# Altium integrated library Miscellaneous$.IntLib: 22 symbols
Pins are listed as number, name and electrical type; pins without a type are passive.

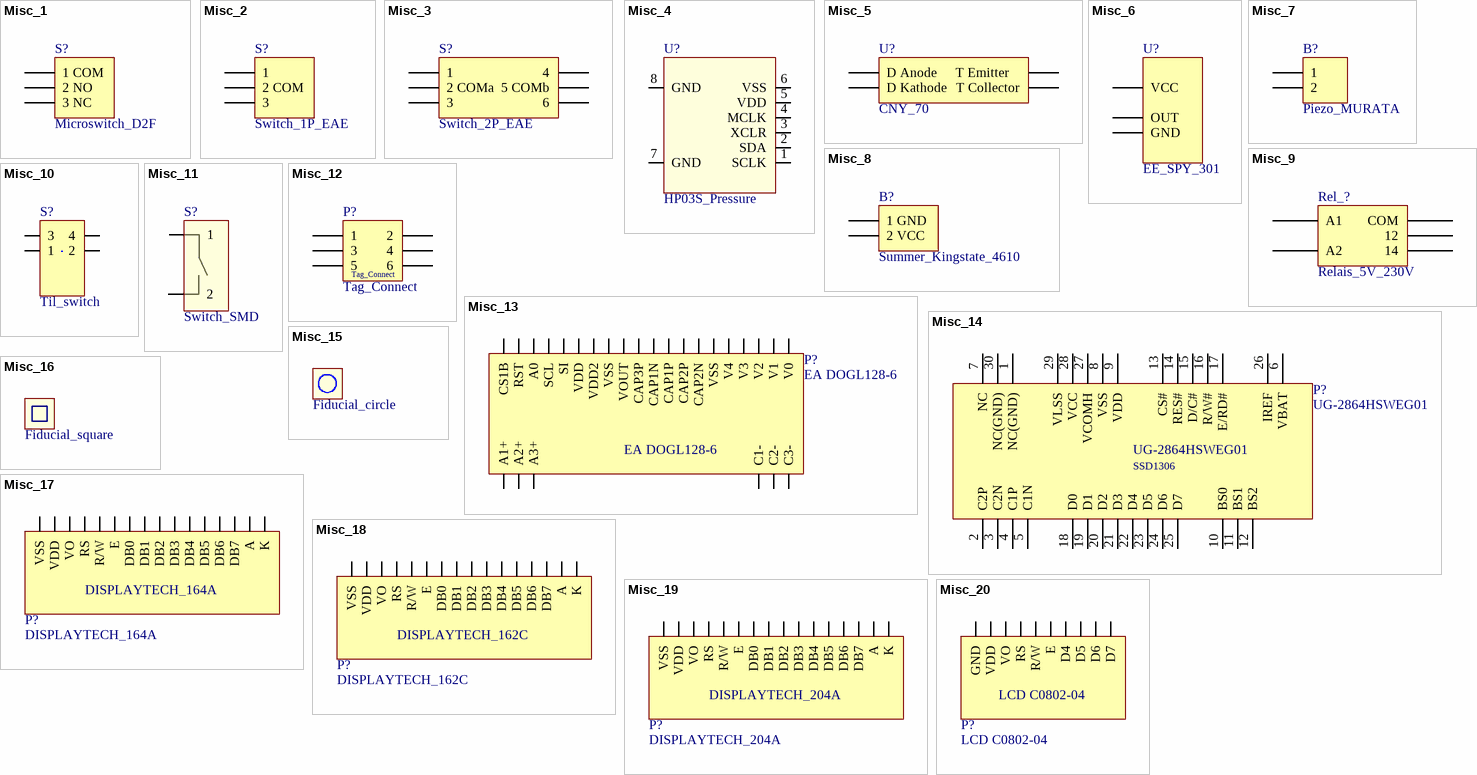
[diagram p0: symbols Misc_1 to Misc_20]

## Misc_1
designator S?, comment Microswitch_D2F
QR: 0; UID: Misc_1; Name: Microswitch_D2F; ComponentLink1URL: #NAME?; mounting: THT
footprint MICROSWITCH_D2F
pins: 1 1 COM, 2 2 NO, 3 3 NC

## Misc_2
designator S?, comment Switch_1P_EAE
RS_number: 448-0810; QR: 0; UID: Misc_2; Name: Switch_1P_EAE; Name_Hyperlink: Kippschalter 1-polig E-A-T vertikal; ComponentLink1URL: #NAME?; mounting: THT
footprint SWITCH_1P_EAE
pins: 1, 2 2 COM, 3

## Misc_3
designator S?, comment Switch_2P_EAE
RS_number: 249-2984; QR: 0; UID: Misc_3; Name: Switch_2P_EAE; Name_Hyperlink: Kippschalter 2-polig E-A-E 2A 250VAC; ComponentLink1URL: #NAME?; mounting: THT
footprint SWITCH_2P_EAE
pins: 1, 2 2 COMa, 3, 4, 5 5 COMb, 6

## Misc_4
designator U?, comment HP03S_Pressure
QR: 0; UID: Misc_4; Name: HP03S_Pressure; ComponentLink1URL: #NAME?; mounting: SMD
footprint Drucksensor_HP03S
footprint HP03S_PRESSURE
pins: 1 SCLK, 2 SDA, 3 XCLR, 4 MCLK, 5 VDD, 6 VSS, 7 GND, 8 GND

## Misc_5
designator U?, comment CNY_70
RS_number: 708-5348; QR: 0; UID: Misc_5; Name: CNY_70; Name_Hyperlink: CNY_70; ComponentLink1URL: #NAME?; mounting: THT
footprint CNY_70
pins: 1 D Anode, 2 D Kathode, 3 T Emitter   , 4 T Collector

## Misc_6
designator U?, comment EE_SPY_301
QR: 0; UID: Misc_6; Name: EE_SPY_301; ComponentLink1URL: #NAME?; mounting: THT
footprint EE_SPY_301
pins: 1 VCC, 2 OUT, 3 GND

## Misc_7
designator B?, comment Piezo_MURATA
3d_ref: 0; RS_number: 721-4931; UID: Misc_7; Name: Piezo_MURATA; Name_Hyperlink: Piezoelektrischer Wandler 3Vac 72dB; ComponentLink1URL: #NAME?; QR: 0; mounting: THT
footprint PIEZO_MURATA
pins: 1, 2

## Misc_8
designator B?, comment Summer_Kingstate_4610
3d_ref: 0; RS_number: 622-1326; UID: Misc_8; Name: Summer_Kingstate_4610; Name_Hyperlink: Piezo,Summer,25V,75dB; ComponentLink1URL: #NAME?; QR: 0; mounting: SMD
footprint SUMMER_KINGSTATE_4610
pins: 1 1 GND, 2 2 VCC

## Misc_9
designator Rel_?, comment Relais_5V_230V
RS_number: 511-2142; QR: 0; UID: Misc_9; Name: Relais_5V_230V; Name_Hyperlink: https://at.rs-online.com/web/p/monostabile-relais/5112142/?searchTerm=511-2142&relevancy-data=636F3D3126696E3D4931384E525353746F636B4E756D6265724D504E266C753D656E266D6D3D6D61746368616C6C26706D3D5E5C647B337D5B5C732D2F255C2E2C5D5C647B332C347D2426706F3D31342; ComponentLink1URL: #NAME?; mounting: THT
footprint RELAIS_5V_230V
pins: 11 COM, 12, 14, A1, A2

## Misc_10
designator S?, comment Til_switch
3d_ref: 0; RS_number: 361-5093; UID: Misc_10; Name: Til_switch; Name_Hyperlink: Til_switch; ComponentLink1URL: #NAME?; QR: 0; mounting: THT
footprint TIL_SWITCH
pins: 1, 2, 3, 4

## Misc_11
designator S?, comment Switch_SMD
QR: 0; UID: Misc_11; Name: Switch_SMD; ComponentLink1URL: #NAME?; mounting: SMD
footprint SWITCH_SMD
pins: 1, 2

## Misc_12
designator P?, comment Tag_Connect
QR: 0; UID: Misc_12; Name: Tag_Connect; ComponentLink1URL: #NAME?; mounting: SMD
footprint Tag_Connect
pins: 1, 2, 3, 4, 5, 6

## Misc_13
designator P?, comment EA DOGL128-6
RS_number: 758-8706; QR: 0; UID: Misc_13; Name: EA DOGL128-6; Name_Hyperlink: EA DOGL128-6; ComponentLink1URL: #NAME?; mounting: THT
footprint EA_DOGL128B_6
pins: 1 A1+, 2 A2+, 3 A3+, 18 C1-, 19 C2-, 20 C3-, 21 V0, 22 V1, 23 V2, 24 V3, 25 V4, 26 VSS, 27 CAP2N, 28 CAP2P, 29 CAP1P, 30 CAP1N, 31 CAP3P, 32 VOUT, 33 VSS, 34 VDD2, 35 VDD, 36 SI, 37 SCL, 38 A0, 39 RST, 40 CS1B

## Misc_14
designator P?, comment UG-2864HSWEG01
QR: 0; UID: Misc_14; Name: UG-2864HSWEG01; ComponentLink1URL: #NAME?; mounting: SMD
footprint UG-2864HSWEG01
pins: 1 NC(GND), 2 C2P, 3 C2N, 4 C1P, 5 C1N, 6 VBAT, 7 NC, 8 VSS, 9 VDD, 10 BS0, 11 BS1, 12 BS2, 13 CS#, 14 RES#, 15 D/C#, 16 R/W#, 17 E/RD#, 18 D0, 19 D1, 20 D2, 21 D3, 22 D4, 23 D5, 24 D6, 25 D7, 26 IREF, 27 VCOMH, 28 VCC, 29 VLSS, 30 NC(GND)
text: SSD1306

## Misc_15
designator W?, comment Fiducial_circle
QR: 0; UID: Misc_15; Name: Fiducial_circle; ComponentLink1URL: #NAME?; mounting: SMD
footprint Fiducial_circle

## Misc_16
designator W?, comment Fiducial_square
QR: 0; UID: Misc_16; Name: Fiducial_square; ComponentLink1URL: #NAME?; mounting: SMD
footprint Fiducial_square

## Misc_17
designator P?, comment DISPLAYTECH_164A
RS_number: 532-6795; QR: 0; UID: Misc_17; Name: DISPLAYTECH_164A; Name_Hyperlink: http://at.rs-online.com/web/p/lcd-displays-monochrom/5326795/?searchTerm=displaytech+164a&relevancy-data=636F3D3126696E3D4931384E4272616E644D504E266C753D6465266D6D3D6D61746368616C6C26706D3D5E5B5C772D5C2E2F252C5C735D2B2426706F3D3526736E3D592673743D4B455957; ComponentLink1URL: #NAME?; mounting: THT
footprint DISPLAYTECH_164A
pins: 1 VSS, 2 VDD, 3 VO, 4 RS, 5 R/W, 6 E, 7 DB0, 8 DB1, 9 DB2, 10 DB3, 11 DB4, 12 DB5, 13 DB6, 14 DB7, 15 A, 16 K

## Misc_18
designator P?, comment DISPLAYTECH_162C
RS_number: 532-6458; QR: 0; UID: Misc_18; Name: DISPLAYTECH_162C; Name_Hyperlink: http://at.rs-online.com/web/p/products/5326458/; ComponentLink1URL: #NAME?; mounting: THT
footprint DISPLAYTECH_162C
pins: 1 VSS, 2 VDD, 3 VO, 4 RS, 5 R/W, 6 E, 7 DB0, 8 DB1, 9 DB2, 10 DB3, 11 DB4, 12 DB5, 13 DB6, 14 DB7, 15 A, 16 K

## Misc_19
designator P?, comment DISPLAYTECH_204A
RS_number: 532-6458; QR: 0; UID: Misc_19; Name: DISPLAYTECH_204A; Name_Hyperlink: http://at.rs-online.com/web/p/products/5326458/; ComponentLink1URL: #NAME?; mounting: THT
footprint DISPLAYTECH_204A
pins: 1 VSS, 2 VDD, 3 VO, 4 RS, 5 R/W, 6 E, 7 DB0, 8 DB1, 9 DB2, 10 DB3, 11 DB4, 12 DB5, 13 DB6, 14 DB7, 15 A, 16 K

## Misc_20
designator P?, comment LCD C0802-04
RS_number: 120 622; QR: 0; UID: Misc_20; Name: LCD C0802-04; Name_Hyperlink: http://www.pollin.de/shop/dt/NzczOTc4OTk-/Bauelemente_Bauteile/Aktive_Bauelemente/Displays/LCD_Modul_C0802_04.html; ComponentLink1URL: #NAME?; mounting: SMD
footprint LCD C0802-04
pins: 1 GND, 2 VDD, 3 VO, 4 RS, 5 R/W, 6 E, 7 D4, 8 D5, 9 D6, 10 D7

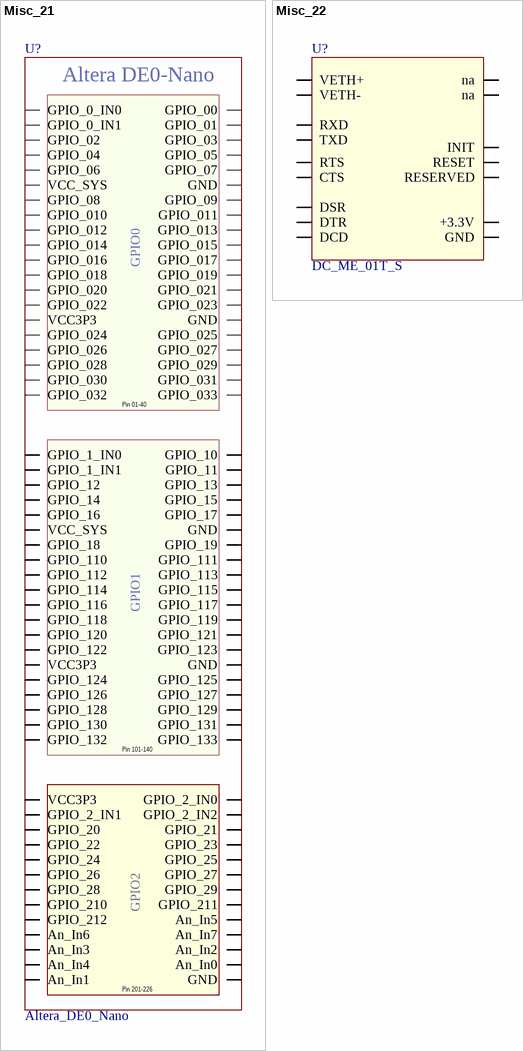
[diagram p1: symbols Misc_21 to Misc_22]

## Misc_21
designator U?, comment Altera_DE0_Nano
QR: 0; UID: Misc_21; Name: Altera_DE0_Nano; ComponentLink1URL: #NAME?; mounting: THT
footprint Altera_DE0_Nano
pins: 1 GPIO_0_IN0, 2 GPIO_00, 3 GPIO_0_IN1, 4 GPIO_01, 5 GPIO_02, 6 GPIO_03, 7 GPIO_04, 8 GPIO_05, 9 GPIO_06, 10 GPIO_07, 11 VCC_SYS, 12 GND, 13 GPIO_08, 14 GPIO_09, 15 GPIO_010, 16 GPIO_011, 17 GPIO_012, 18 GPIO_013, 19 GPIO_014, 20 GPIO_015, 21 GPIO_016, 22 GPIO_017, 23 GPIO_018, 24 GPIO_019, 25 GPIO_020, 26 GPIO_021, 27 GPIO_022, 28 GPIO_023, 29 VCC3P3, 30 GND, 31 GPIO_024, 32 GPIO_025, 33 GPIO_026, 34 GPIO_027, 35 GPIO_028, 36 GPIO_029, 37 GPIO_030, 38 GPIO_031, 39 GPIO_032, 40 GPIO_033, 101 GPIO_1_IN0, 102 GPIO_10, 103 GPIO_1_IN1, 104 GPIO_11, 105 GPIO_12, 106 GPIO_13, 107 GPIO_14, 108 GPIO_15, 109 GPIO_16, 110 GPIO_17, 111 VCC_SYS, 112 GND, 113 GPIO_18, 114 GPIO_19, 115 GPIO_110, 116 GPIO_111, 117 GPIO_112, 118 GPIO_113, 119 GPIO_114, 120 GPIO_115, 121 GPIO_116, 122 GPIO_117, 123 GPIO_118, 124 GPIO_119, 125 GPIO_120, 126 GPIO_121, 127 GPIO_122, 128 GPIO_123, 129 VCC3P3, 130 GND, 131 GPIO_124, 132 GPIO_125, 133 GPIO_126, 134 GPIO_127, 135 GPIO_128, 136 GPIO_129, 137 GPIO_130, 138 GPIO_131, 139 GPIO_132, 140 GPIO_133, 201 VCC3P3, 202 GPIO_2_IN0, 203 GPIO_2_IN1, 204 GPIO_2_IN2, 205 GPIO_20, 206 GPIO_21, 207 GPIO_22, 208 GPIO_23, 209 GPIO_24, 210 GPIO_25, 211 GPIO_26, 212 GPIO_27, 213 GPIO_28, 214 GPIO_29, 215 GPIO_210, 216 GPIO_211, 217 GPIO_212, 218 An_In5, 219 An_In6, 220 An_In7, 221 An_In3, 222 An_In2, 223 An_In4, 224 An_In0, 225 An_In1, 226 GND
text: Altera DE0-Nano; GPIO0; Pin 01-40; GPIO1; Pin 101-140; GPIO2; Pin 201-226

## Misc_22
designator U?, comment DC_ME_01T_S
RS_number: 436-604; QR: 0; UID: Misc_22; Name: DC_ME_01T_S; Name_Hyperlink: http://at.rs-online.com/web/p/netzwerkmodule/0436604/?searchTerm=436-604&relevancy-data=636F3D3126696E3D4931384E525353746F636B4E756D6265724D504E266C753D656E266D6D3D6D61746368616C6C26706D3D5E5C647B337D5B5C732D2F255C2E2C5D5C647B332C347D2426706F3D313426736E3; ComponentLink1URL: #NAME?; mounting: SMD
footprint DC_ME_01T_S
pins: 1 VETH+, 2 VETH-, 7 RXD, 8 TXD, 9 RTS, 10 DTR, 11 CTS, 12 DSR, 13 DCD, 14 RESET, 15 +3.3V, 16 GND, 17 na, 18 na, 19 RESERVED, 20 INIT